# EAGLE library part 50246-034 (library con-aces-50246-series)
ACES CONNECTORS 50246 SERIES ACES Connecors 50246 <https://www.acesconn.com/tw/series/50246-xxxxx-xxx/1292>
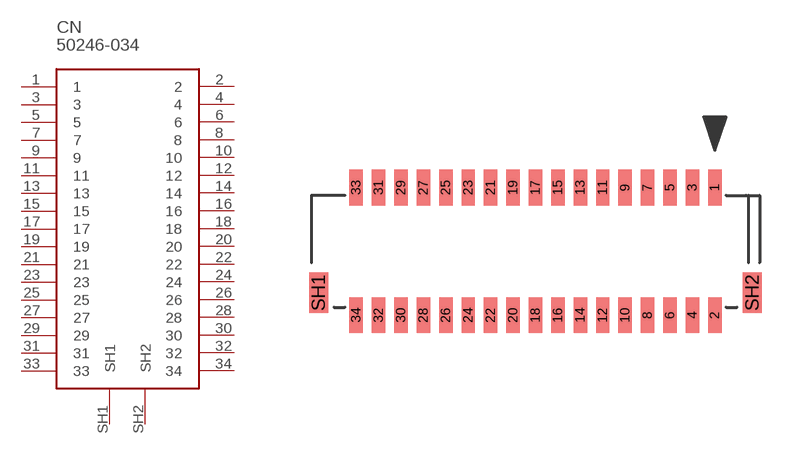
[diagram p8: symbol with the pads of 50246-034; footprint 50246-034]

Designator prefix CN

## 50246-034  [50246-034]
1  1
2  2
3  3
4  4
5  5
6  6
7  7
8  8
9  9
10  10
11  11
12  12
13  13
14  14
15  15
16  16
17  17
18  18
19  19
20  20
21  21
22  22
23  23
24  24
25  25
26  26
27  27
28  28
29  29
30  30
31  31
32  32
33  33
34  34
SH1  SH1
SH2  SH2

## Footprint 50246-034 (pad centres in mm)
smd 0.6 x 1.6: 1 8,2.85; 2 8,-2.85; 3 7,2.85; 4 7,-2.85; 5 6,2.85; 6 6,-2.85; 7 5,2.85; 8 5,-2.85; 9 4,2.85; 10 4,-2.85; 11 3,2.85; 12 3,-2.85; 13 2,2.85; 14 2,-2.85; 15 1,2.85; 16 1,-2.85; 17 0,2.85; 18 0,-2.85; 19 -1,2.85; 20 -1,-2.85; 21 -2,2.85; 22 -2,-2.85; 23 -3,2.85; 24 -3,-2.85; 25 -4,2.85; 26 -4,-2.85; 27 -5,2.85; 28 -5,-2.85; 29 -6,2.85; 30 -6,-2.85; 31 -7,2.85; 32 -7,-2.85; 33 -8,2.85; 34 -8,-2.85
smd 0.85 x 1.8: SH1 -9.675,-1.85; SH2 9.675,-1.85